# EAGLE library part SN74LVC2G04DBVRE4 (library 74xx-little-us)
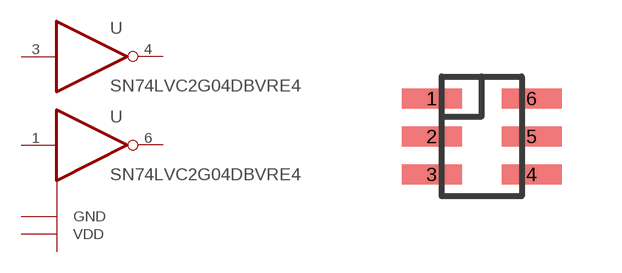
[diagram p5: symbol with the pads of SN74LVC2G04DBVRE4; footprint SN74LVC2G04DBVRE4]

Designator prefix U

## SN74LVC2G04DBVRE4  [SN74LVC2G04DBVRE4]
1  I  in
2  GND
3  I1  in
4  O1  out
5  VDD
6  O  out

## Footprint SN74LVC2G04DBVRE4 (pad centres in mm)
smd 1.5 x 0.5: 1 -1.25,0.95; 2 -1.25,0; 3 -1.25,-0.95; 4 1.25,-0.95; 5 1.25,0; 6 1.25,0.95